# Altium schematic symbol library AlmaznyLib.SchLib: 2 symbols
Pins are listed as number, name and electrical type; pins without a type are passive.

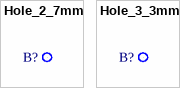
[diagram p0: symbols Hole_2_7mm to Hole_3_3mm]

## Hole_2_7mm
designator B?, comment Plated Hole  (value not drawn)
2.7mm hole pad 5mm; Part Number: PLATED_HOLE2.7_PAD5.0; Part Description: Plated Through Hole: Hole Dia.=2.7mm Pad Dia.=5.0mm; Mounted: No; Component Kind: Standard (No BOM); Component Type: Standard (No BOM); Footprint: MTG270_500; Pin Count: 1; Family: Plated Hole; Socket: No; SMD: No; Sense: No; Status: None; ComponentHeight: 0mm; HelpURL: Undefined; Author: CERN DEM JMW; CreateDate: 27/09/2011; LatestRevisionDate: 27/09/2011; PackageDescription: Plated Through Hole: Hole Dia.=2.7mm Pad Dia.=5.0mm
footprint MTG270_500
pins: 1 (io)

## Hole_3_3mm
designator B?, comment Plated Hole  (value not drawn)
3.3mm hole pad 6mm; Part Number: PLATED_HOLE3.3_PAD560; Part Description: Plated Through Hole: Hole Dia.=2.7mm Pad Dia.=5.0mm; Mounted: No; Component Kind: Standard (No BOM); Component Type: Standard (No BOM); Footprint: MTG330_600; Pin Count: 1; Family: Plated Hole; Socket: No; SMD: No; Sense: No; Status: None; ComponentHeight: 0mm; HelpURL: Undefined; Author: CERN DEM JMW; CreateDate: 27/09/2011; LatestRevisionDate: 27/09/2011; PackageDescription: Plated Through Hole: Hole Dia.=2.7mm Pad Dia.=5.0mm
footprint MTG330_600 (Plated Through Hole: Hole Dia.=3.3mm Pad Dia.=6.0mm)
pins: 1 (io)